# Altium footprint library PcbLib1.PcbLib: 22 footprints (part 2 of 2)
Each footprint in its own frame and in the unit in brackets; x right, y up, seen from the top. Pads: shape width x height; smd on the part's side, far side on the other; paste and mask are expansions set on the pad; w line width, h text height; cw(c..) or ccw(c..) is an arc to the next point about the centre after c.
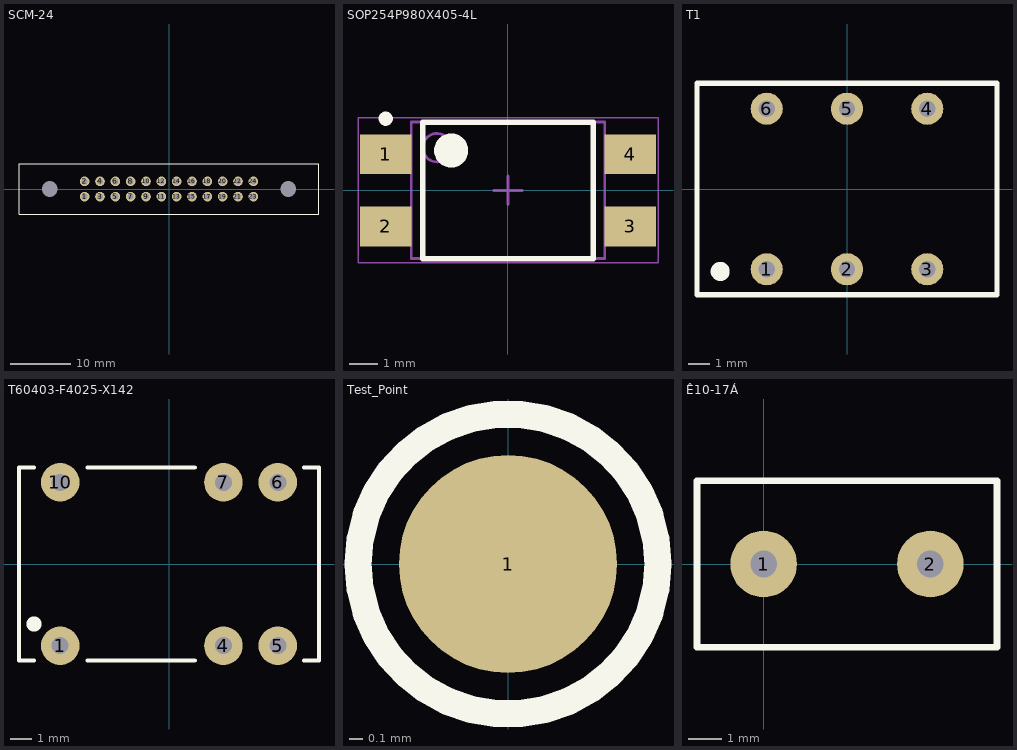
[diagram p1: the footprints below, top view; thin cyan lines are the x and y axes]

## SCM-24 [mm]
height 28
pads (26):
  round 1.6 hole 1: 1(-13.97,-1.27) 2(-13.97,1.27) 3(-11.43,-1.27) 4(-11.43,1.27) 5(-8.89,-1.27) 6(-8.89,1.27) 7(-6.35,-1.27) 8(-6.35,1.27) 9(-3.81,-1.27) 10(-3.81,1.27) 11(-1.27,-1.27) 12(-1.27,1.27) 13(1.27,-1.27) 14(1.27,1.27) 15(3.81,-1.27) 16(3.81,1.27) 17(6.35,-1.27) 18(6.35,1.27) 19(8.89,-1.27) 20(8.89,1.27) 21(11.43,-1.27) 22(11.43,1.27) 23(13.97,-1.27) 24(13.97,1.27)
  round 0 hole 2.6 unplated mask+0.102: ""(-19.75,0) ""(19.75,0)
Top Overlay:
  lines w0.2: -24.85,-4.15 -24.85,4.15 24.85,4.15 24.85,-4.15 -24.85,-4.15

## SOP254P980X405-4L [mm] "SOP, 4-Leads, Body 4,69x6,65mm, Pitch 2,54mm, IPC High Density"
height 4.05
pads (4):
  rect 1.8x1.4 smd: 1(-4.3,1.27) 2(-4.3,-1.27) 3(4.3,-1.27) 4(4.3,1.27)
Top Overlay:
  circle w0.25: c-4.3,2.52 r0.125
  circle w0.6: c-2,1.4 r0.3
  lines w0.2: -3,-2.4 -3,2.4 3,2.4 3,-2.4 -3,-2.4
Mechanical 13:
  circle w0.1: c-2.5,1.5 r0.5
  lines w0.1: -3.4,-2.4 -3.4,2.4 3.4,2.4 3.4,-2.4 -3.4,-2.4
Mechanical 15:
  lines w0.05: -5.275,-2.55 -5.275,2.55 5.275,2.55 5.275,-2.55 -5.275,-2.55
  lines w0.1: -0.5,0 0.5,0 ; 0,-0.5 0,0.5
3D body "SOP254P980X405-4L.step": height 4.05, standoff 0, extent -4.89,-2.4 4.89,2.4

## T1 [mil]
pads (6):
  round 60 hole 30: 1(-149.61,-149.61) 2(0,-149.61) 3(149.61,-149.61) 4(149.61,149.61) 5(0,149.61) 6(-149.61,149.61)
Top Overlay:
  circle w19.68: c-236.22,-153.54 r7.87
  lines w10: -279.53,-196.85 279.53,-196.85 279.53,196.85 -279.53,196.85 -279.53,-196.85

## T60403-F4025-X142 [mm]
height 15
pads (6):
  round 1.8 hole 0.8: 1(-5.08,-3.81) 4(2.54,-3.81) 5(5.08,-3.81) 6(5.08,3.81) 7(2.54,3.81) 10(-5.08,3.81)
Top Overlay:
  circle w0.5: c-6.3,-2.8 r0.1
  lines w0.2: -6.3,-4.5 -7,-4.5 -7,4.5 -6.3,4.5 ; -3.8,-4.5 1.2,-4.5 ; -3.8,4.5 1.2,4.5 ; 6.3,-4.5 7,-4.5 7,4.5 6.3,4.5

## Test_Point [mm]
pads (1):
  round 1.6 smd: 1(0,0)
Top Overlay:
  circle w0.2: c0,0 r1.1

## Ê10-17Á [mm]
pads (2):
  round 2 hole 0.8: 1(0,0) 2(5,0)
Top Overlay:
  lines w0.2: -2,-2.5 7,-2.5 7,2.5 -2,2.5 -2,-2.5